# Altium integrated library IFX91041.IntLib: 1 symbol
Pins are listed as number, name and electrical type; pins without a type are passive.

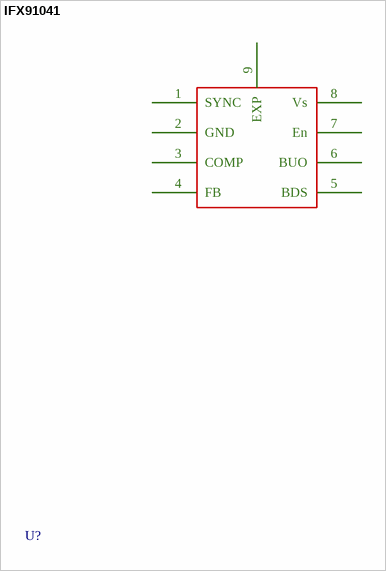
[diagram p0: symbol IFX91041]

## IFX91041
designator U?  (value not drawn)
1.8A DC/DC Step-Down Voltage Regulator
pins: 1 SYNC, 2 GND, 3 COMP, 4 FB, 5 BDS, 6 BUO, 7 En, 8 Vs, 9 EXP